# EAGLE library part DERM (library LCD)
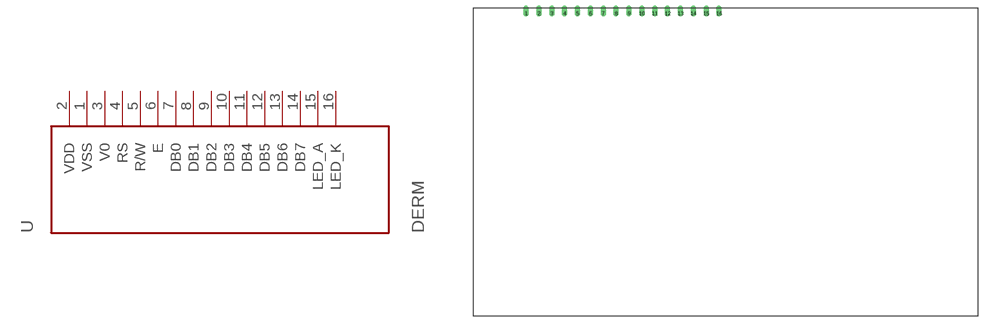
[diagram p0: symbol with the pads of ERM2004-2SERIES; footprint ERM2004-2SERIES]

Designator prefix -

## DERM  [ERM2004-2SERIES]
1  VSS  pwr
2  VDD  pwr
3  V0
4  RS
5  R/W
6  E
7  DB0
8  DB1
9  DB2
10  DB3
11  DB4
12  DB5
13  DB6
14  DB7
15  LED_A
16  LED_K

## Footprint ERM2004-2SERIES (pad centres in mm)
drill 0.6 offset: 1 -39.37,29.21; 2 -36.87,29.21; 3 -34.37,29.21; 4 -31.87,29.21; 5 -29.37,29.21; 6 -26.87,29.21; 7 -24.37,29.21; 8 -21.87,29.21; 9 -19.37,29.21; 10 -16.87,29.21; 11 -14.37,29.21; 12 -11.87,29.21; 13 -9.37,29.21; 14 -6.87,29.21; 15 -4.37,29.21; 16 -1.87,29.21